# EAGLE library part 418117270904 (library EAGLE-TACT_SWITCHES-rev16e)
2.54 mm compact THT with raised actuator WS-DITV, 4 Pole <http://katalog.we-online.de/media/images/v2/Family_WS_BS_4181172709xx_pf2.jpg> Details see: http://katalog.we-online.de/en/em/DITV_2_54_COMPACT_THT_WITH_RAISED_ACTUATOR 2015 (C) Wurth Elektronik
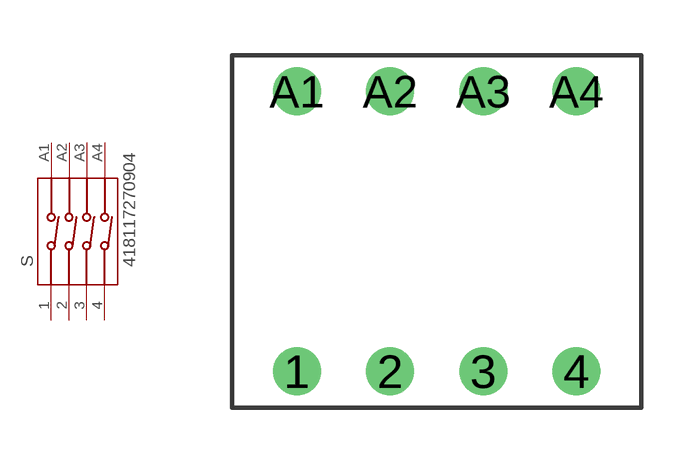
[diagram p34: symbol with the pads of 418117270904; footprint 418117270904]

Designator prefix S

## 418117270904  [418117270904]
1  1  pas
2  2  pas
3  3  pas
4  4  pas
A1  A1  pas
A2  A2  pas
A3  A3  pas
A4  A4  pas

## Footprint 418117270904 (pad centres in mm)
WS-BS 2.54 mm compact THT Dip Switch with raised actuator, 4 Pole
drill 0.8: 1 -3.81,-3.81; 2 -1.27,-3.81; 3 1.27,-3.81; 4 3.81,-3.81; A1 -3.81,3.81; A2 -1.27,3.81; A3 1.27,3.81; A4 3.81,3.81